# Altium footprint library MY_LIB.PcbLib: 129 footprints (part 1 of 9)
Each footprint in its own frame and in the unit in brackets; x right, y up, seen from the top. Pads: shape width x height; smd on the part's side, far side on the other; paste and mask are expansions set on the pad; w line width, h text height; cw(c..) or ccw(c..) is an arc to the next point about the centre after c.
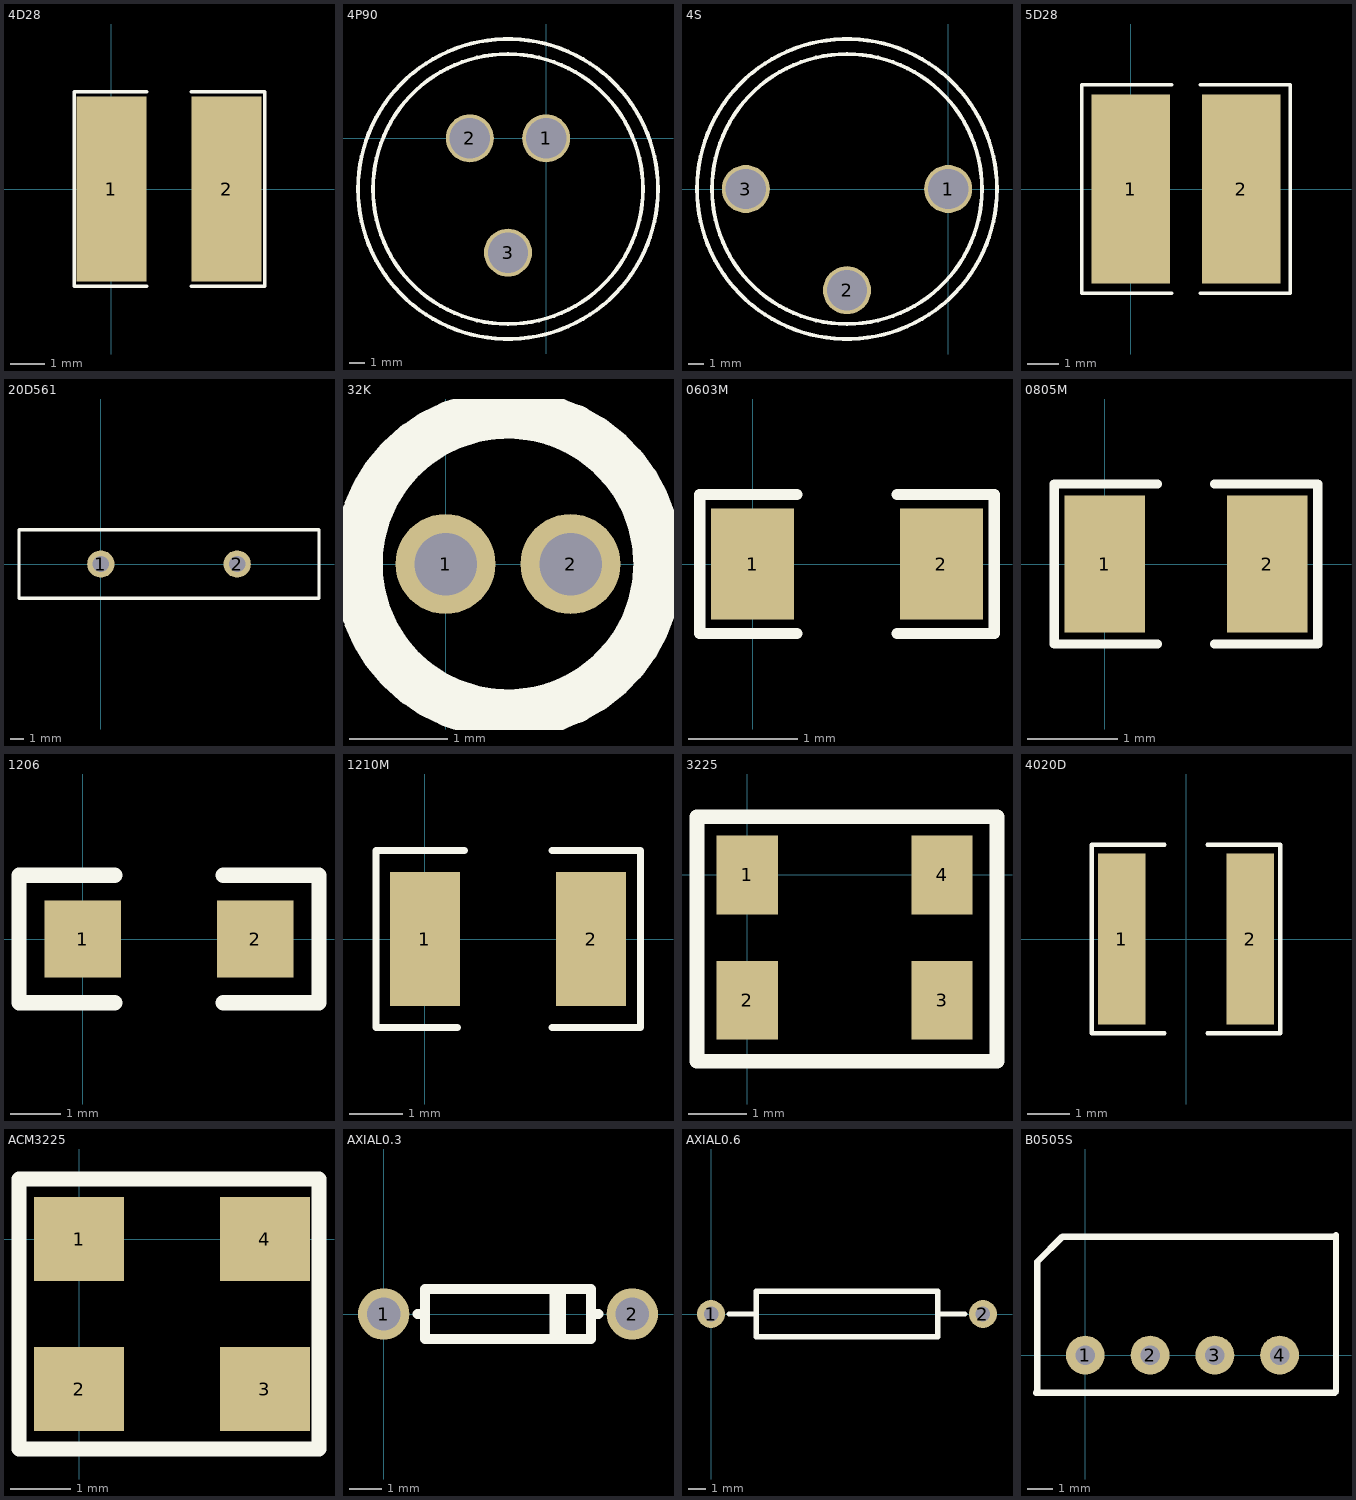
[diagram p0: the footprints below, top view; thin cyan lines are the x and y axes]

## 4D28 [mm]
pads (2):
  rect 2x5.3 smd: 1(0,0) 2(3.3,0)
Top Overlay:
  lines w0.102: 1.016,-2.794 -1.067,-2.794 -1.067,2.794 1.016,2.794 ; 2.286,-2.794 4.394,-2.794 4.394,2.794 2.286,2.794

## 4P90 [mm]
pads (3):
  round 3.2 hole 2.7: 1(0,0) 2(-5.08,0) 3(-2.54,-7.62)
Top Overlay:
  circle w0.254: c-2.54,-3.38 r10
  circle w0.254: c-2.54,-3.38 r9

## 4S [mm]
pads (3):
  round 3.2 hole 2.7: 1(0,0) 2(-6.75,-6.75) 3(-13.5,0)
Top Overlay:
  circle w0.254: c-6.75,0 r10
  circle w0.254: c-6.75,0 r9

## 5D28 [mm]
pads (2):
  rect 2.5x6 smd: 1(0,0) 2(3.5,0)
Top Overlay:
  lines w0.102: 1.3,-3.3 -1.55,-3.3 -1.55,3.3 1.3,3.3 ; 2.2,-3.3 5.05,-3.3 5.05,3.3 2.2,3.3

## 20D561 [mm]
pads (2):
  round 2 hole 1.2: 1(0,0) 2(10,0)
Top Overlay:
  lines w0.254: -6,-2.5 -6,2.5 16,2.5 16,-2.5 -6,-2.5

## 32K [mil]
pads (2):
  round 40 hole 25: 1(0,0) 2(50,0)
Top Overlay:
  circle w19.68: c25,0 r60

## 0603M [mil]
pads (2):
  rect 30x40 smd: 1(0,0) 2(68,0)
Top Overlay:
  lines w4: 16,-25 -19,-25 -19,25 16,25 ; 52,-25 87,-25 87,25 52,25

## 0805M [mil]
pads (2):
  rect 35x60 smd: 1(0,0) 2(71,0)
Top Overlay:
  lines w4: 23,-35 -22,-35 -22,35 23,35 ; 48,-35 93,-35 93,35 48,35

## 1206 [mil]
pads (2):
  rect 60x60 smd: 1(0,0) 2(135,0)
Top Overlay:
  lines w12: 25,-50 -50,-50 -50,50 25,50 ; 110,-50 185,-50 185,50 110,50

## 1210M [mm]
pads (2):
  rect 1.3x2.5 smd: 1(0,0) 2(3.1,0)
Top Overlay:
  lines w0.127: 0.61,-1.651 -0.914,-1.651 -0.914,1.651 0.737,1.651 ; 2.372,-1.651 4.023,-1.651 4.023,1.651 2.372,1.651

## 3225 [mm]
pads (4):
  rect 1.05x1.35 smd: 1(0,0) 2(0,-2.15) 3(3.35,-2.15) 4(3.35,0)
Top Overlay:
  lines w0.254: -0.864,-3.2 -0.864,1 4.293,1 4.293,-3.2 -0.864,-3.2

## 4020D [mm]
pads (2):
  rect 1.1x4 smd: 1(-1.5,0) 2(1.5,0)
Top Overlay:
  lines w0.102: -0.5,-2.2 -2.2,-2.2 -2.2,2.2 -0.5,2.2 ; 0.5,-2.2 2.2,-2.2 2.2,2.2 0.5,2.2

## ACM3225 [mm]
pads (4):
  rect 1.5x1.4 smd: 1(0,0) 2(0,-2.5) 3(3.1,-2.5) 4(3.1,0)
Top Overlay:
  lines w0.254: -1,-3.5 -1,1 4,1 4,-3.5 -1,-3.5

## AXIAL0.3 [mil]
pads (2):
  round 62 hole 40: 1(0,0) 2(300,0)
Top Overlay:
  rectangle: 200,-30 220,30
  lines w12: 41,0 50,0 ; 259,0 250,0 ; 250,0 250,-30 50,-30 50,30 250,30 250,0

## AXIAL0.6 [mil]
pads (2):
  round 62 hole 32: 1(0,0) 2(600,0)
Top Overlay:
  lines w12: 40,0 100,0 ; 500,0 560,0 ; 100,-50 500,-50 500,50 100,50 100,-50

## B0505S [mil]
pads (4):
  round 60 hole 30: 1(0,0) 2(100,0) 3(200,0) 4(300,0)
Top Overlay:
  lines w10: -74,-56 -76,-58 385,-58 387,-56 387,185 ; -74,-54 -74,144 -35,183 -1,183 ; -4,183 385,183